# Altium schematic symbol library mPCIe_Breakout01.SCHLIB: 46 symbols
Pins are listed as number, name and electrical type; pins without a type are passive.

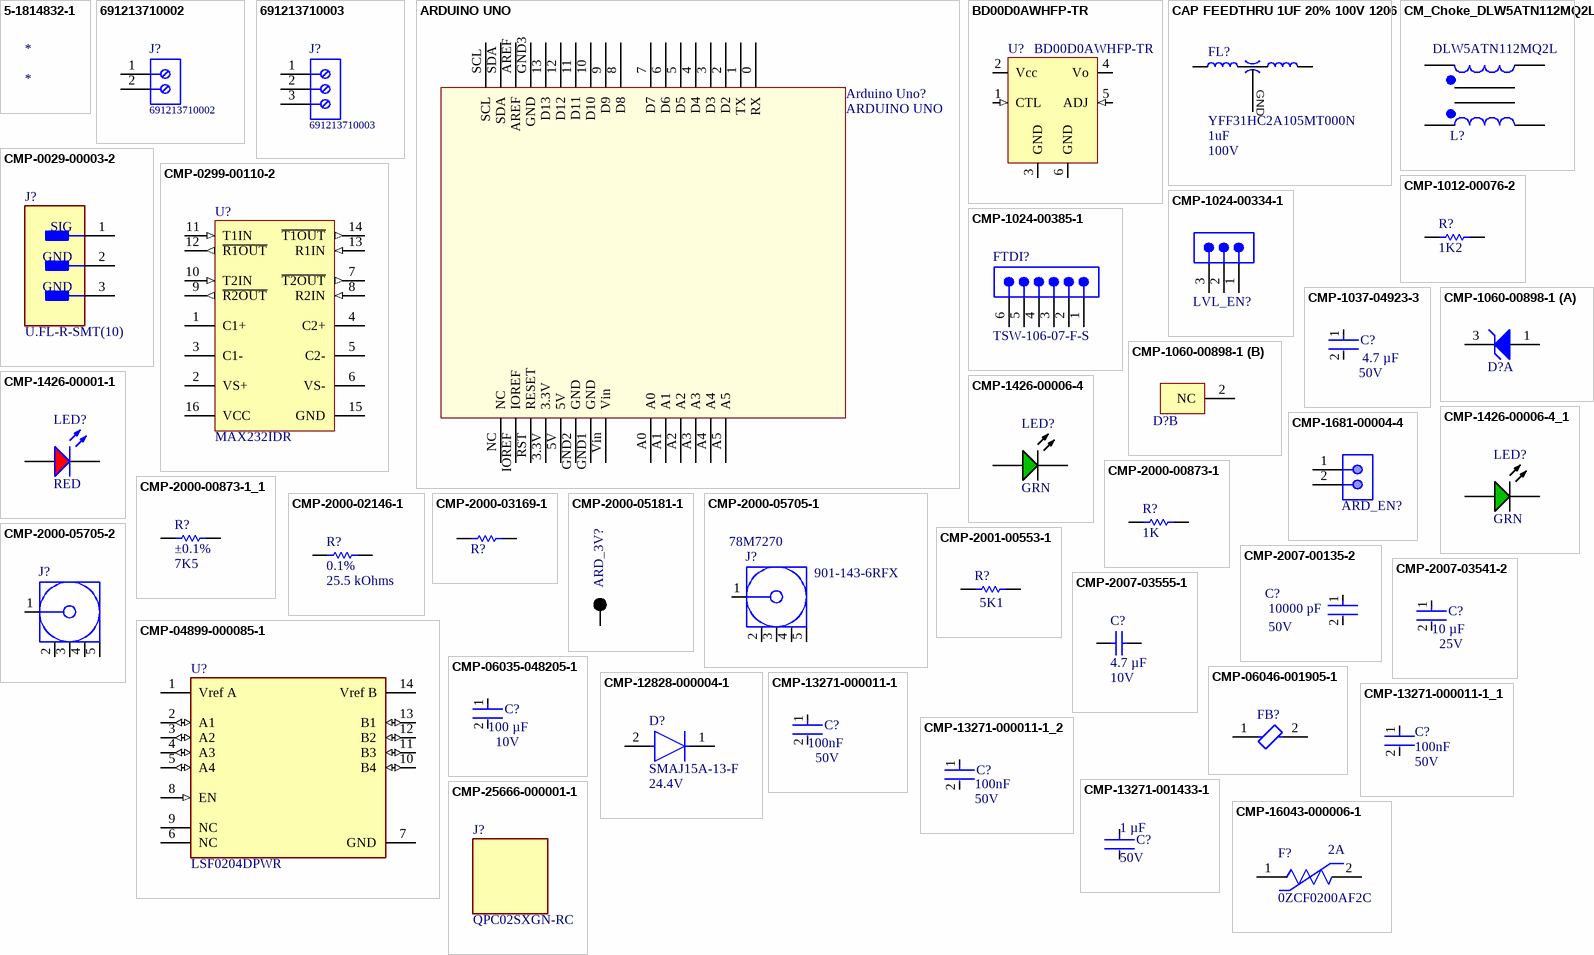
[diagram p0: symbols 5-1814832-1 to CMP-25666-000001-1]

## 5-1814832-1
designator *
SMA 50 Ohm Female Straight PCB Socket Threaded RF Jack Connector

## 691213710002
designator J?
HEADER, 2 Position Wire to Board Terminal Block Horizontal with Board 0.197" (5.00mm) Through Hole; MANUF1: Wurth Electronics Inc.; 1K COST: .68; TEMP: -40°C ~ 105°C; Value: Green; Voltage: 300V; MANUF1 P/N: 691213710002; Size: 5mm; SPECIAL_INSTRUCTIONS: 691213710002; Supplier: Digikey; Supplier P/N: 732-2038-ND; Tolerance: n/a; Type: Wire to Board; Manufacturer: Wurth Electronics Inc.; Manufacturer Part Number: 691213710002
footprint 691213710002 (5,00mm - modular - green - Horizontal entry with rising cage clamp -  10,0mm height - 02p)
pins: 1, 2

## 691213710003
designator J?
HEADER, 3 Position Wire to Board Terminal Block Horizontal with Board 0.197" (5.00mm) Through Hole; MANUF1: Wurth Electronics Inc.; 1K COST: .93; TEMP: -40°C ~ 105°C; Tolerance: NA; Value: Green; Voltage: 300V; MANUF1 P/N: 691213710003; Size: 5mm; SPECIAL_INSTRUCTIONS: 691213710003; Supplier: Digikey; Supplier P/N: 732-2039-ND; Type: Wire to Board; Manufacturer: Wurth Electronics Inc.; Manufacturer Part Number: 691213710003
footprint 691213710003 (5,00mm - modular - green - Horizontal entry with rising cage clamp -  10,0mm height - 03p)
pins: 1, 2, 3

## ARDUINO UNO
designator Arduino Uno?  (no BOM)
UNO; MANUF1: TBD; Value: TBD; MANUF1 P/N: TBD; Manufacturer: TBD; Manufacturer Part Number: TBD; Size: TH; SPECIAL_INSTRUCTIONS: TBD; Supplier: Digi-Key; Supplier P/N: TBD; TEMP: TBD; Tolerance: TBD; Type: TBD; Voltage: TBD
footprint Arduino Uno
pins: 0 RX, 1 TX, 2 D2, 3 D3, 3.3V, 4 D4, 5 D5, 5V, 6 D6, 7 D7, 8 D8, 9 D9, 10 D10, 11 D11, 12 D12, 13 D13, A0, A1, A2, A3, A4, A5, AREF, GND1 GND, GND2 GND, GND3 GND, IOREF, NC, RST RESET, SCL, SDA, Vin

## BD00D0AWHFP-TR
designator U?
2A Standard / Variable Output LDO Regulator; MANUF1: Rohm; TEMP: -40°C ~ 105°C; Tolerance: NA; Value: 0.55V @ 1A; Voltage: 25V; MANUF1 P/N: BD00D0AWHFP-TR; Manufacturer: Rohm; Manufacturer Part Number: BD00D0AWHFP-TR; Size: HRP-5; SPECIAL_INSTRUCTIONS: BD00D0AWHFP-TR; Supplier: Digi-Key; Supplier P/N: BD00D0AWHFPTR-ND; Type: IC
footprint TO172P1054X2005-6N
pins: 1 CTL (in), 2 Vcc (power), 3 GND (power), 4 Vo (power), 5 ADJ (in), 6 GND (power) "FIN"

## CAP FEEDTHRU 1UF 20% 100V 1206
designator FL?, comment value 1uF  Voltage: 100V  (hidden comment: YFF31HC2A105MT000N)
Feed Through Capacitor 100V 5mOhm 1206 (3216 Metric), 4 PC Pad; MANUF1: TDK Corporation; Tolerance: 10%; TEMP: -55°C ~ 125°C; 1K COST: 0.19; Size: 1206; Supplier: Digikey; Supplier P/N: 445-16151-2-ND; Type: N/A; MANUF1 P/N: YFF31HC2A105MT000N; Manufacturer: TDK Corporation; Manufacturer Part Number: YFF31HC2A105MT000N; SPECIAL_INSTRUCTIONS: YFF31HC2A105MT000N
signal-integrity model Model Name (Model Description)
footprint FIL_YFF31HC2A104MT000N_YFF31HC2A104MT000N
pins: 1 IN/OUT, 2_4 GND (power), 3 OUT/IN
1 alternate drawing of the same symbol

## CM_Choke_DLW5ATN112MQ2L
designator L?, comment DLW5ATN112MQ2L
CMC 2A 2LN 1.1 KOHM SMD; MANUF1: Murata Electronics; Tolerance: NA; Type: CMCCC; TEMP: -40°C ~ 105°C; 1K COST: 0.68; Size: SMT; SPECIAL_INSTRUCTIONS: DLW5ATN112MQ2L; Supplier: Digikey; Supplier P/N: 490-12641-2-ND; MANUF1 P/N: DLW5ATN112MQ2L; Value: 2A; Voltage: N/A; Manufacturer: Murata Electronics; Manufacturer Part Number: DLW5ATN112MQ2L
signal-integrity model Model Name (Model Description)
footprint FIL_DLW5ATN112MQ2L
pins: 1, 2, 3, 4
1 alternate drawing of the same symbol

## CMP-0029-00003-2
designator J?, comment U.FL-R-SMT(10)
CONN U.FL RCPT STR 50 OHM SMD; Manufacturer: Hirose; TEMP: -40°C ~ 90°C; Tolerance: NA; Value: NA; Manufacturer Part Number: U.FL-R-SMT(10); MANUF1: Hirose; MANUF1 P/N: U.FL-R-SMT(10); Size: SMT; SPECIAL_INSTRUCTIONS: U.FL-R-SMT(10); Supplier: Digikey; Supplier P/N: H9161TR-ND; Type: CONN; Voltage: NA
footprint FP-U_FL-R-SMT_10-MFG
pins: 1 SIG, 2 GND (power), 3 GND (power)

## CMP-0299-00110-2
designator U?, comment MAX232IDR
Dual EIA-232 Driver / Receiver, -40 to 85 degC, 16-Pin SOIC (D), Green (RoHS & no Sb/Br); Manufacturer: Texas Instruments; TEMP: -40°C ~ 85°C; Tolerance: NA; Value: NA; Voltage: 4.5V ~ 5.5V; Manufacturer Part Number: MAX232IDR; MANUF1: Texas Instruments; MANUF1 P/N: MAX232IDR; Size: 16SOIC; SPECIAL_INSTRUCTIONS: MAX232IDR; Supplier: Digi-Key; Supplier P/N: 296-26141-2-ND; Type: IC
footprint D0016A_M (SOIC, 16-Leads, Body 10x4mm, Pitch 1.27mm, IPC Low Density)
pins: 1 C1+, 2 VS+ (power), 3 C1-, 4 C2+, 5 C2-, 6 VS- (power), 7 ~{T2OUT} (out), 8 R2IN (in), 9 ~{R2OUT} (out), 10 T2IN (in), 11 T1IN (in), 12 ~{R1OUT} (out), 13 R1IN (in), 14 ~{T1OUT} (out), 15 GND (power), 16 VCC (power)

## CMP-1012-00076-2
designator R?, comment value 1K2  (hidden comment: ERJ-3GEYJ122V)
RES SMD 1.2K OHM 5% 1/10W 0603; Manufacturer: Bourns; Manufacturer Part Number: CR0603-JW-122ELF; TEMP: -55°C ~ 155°C; Voltage: NA; MANUF1: Bourns; MANUF1 P/N: CR0603-JW-122ELF; Size: 0603; SPECIAL_INSTRUCTIONS: CR0603-JW-122ELF; Supplier: Digikey; Supplier P/N: 118-CR0603-JW-122ELFTR-ND; Tolerance: ±5%; Type: RES
footprint RESC1608X55X30LL15T15 (Chip Resistor, 2-Leads, Body 1.60x0.80mm, IPC High Density)
pins: 1, 2
1 alternate drawing of the same symbol

## CMP-1024-00334-1
designator LVL_EN?, comment TSW-103-07-L-S  (value not drawn)
0.025" SQ Post Header, Through-hole, Vertical, -55 to 125 degC, 2.54 mm Pitch, 3-Pin, Male, RoHS; Manufacturer: Samtec; TEMP: -55°C ~ 125°C; Tolerance: NA; Value: NA; Manufacturer Part Number: TSW-103-07-L-S; MANUF1: Samtec; MANUF1 P/N: TSW-103-07-L-S; Size: TH; SPECIAL_INSTRUCTIONS: TSW-103-07-L-S; Supplier: Digi-Key; Supplier P/N: SAM1031-03-ND; Type: CONN; Voltage: NA
footprint SMTC-TSW-103-07-X-S (.025 SQ Post Terminal Strip Assembly, 1x3 Pins, Vertical, 2.54mm Pitch, Male)
pins: 1, 2, 3

## CMP-1024-00385-1
designator FTDI?, comment TSW-106-07-F-S
0.025" SQ Post Header, Through-hole, Vertical, -55 to 125 degC, 2.54 mm Pitch, 6-Pin, Male, RoHS; Manufacturer: Samtec; TEMP: -55°C ~ 125°C; Tolerance: NA; Value: NA; Manufacturer Part Number: TSW-106-07-F-S; MANUF1: Samtec; MANUF1 P/N: TSW-106-07-F-S; Size: TH; SPECIAL_INSTRUCTIONS: TSW-106-07-F-S; Supplier: Digi-Key; Supplier P/N: SAM10852-ND; Type: CONN; Voltage: NA
footprint SMTC-TSW-106-07-X-S (.025 SQ Post Terminal Strip Assembly, 1x6 Pins, Vertical, 2.54mm Pitch, Male)
pins: 1, 2, 3, 4, 5, 6

## CMP-1037-04923-3
designator C?, comment value 4.7 µF  Voltage: 50V  (hidden comment: GRM31CR71H475KA12L)
Chip Multilayer Ceramic Capacitors for General Purpose, 1206, 4.7uF, X7R, 15%, 10%, 50V; Manufacturer: TDK; Manufacturer Part Number: C3216X5R1H475K; TEMP: 445-5994-2-ND; Type: CAP; Tolerance: 10%; MANUF1: TDK; MANUF1 P/N: C3216X5R1H475K; Size: 1206; SPECIAL_INSTRUCTIONS: C3216X5R1H475K; Supplier: Digi-Key; Supplier P/N: C3216X5R1H475K
footprint FP-GRM31C-0_2-e0_3_0_8-IPC_C
pins: 1, 2

## CMP-1060-00898-1
designator D?, comment BZX84B5V1LT1G  (value not drawn)
Zener Voltage Regulator, 225 mW, 3-Pin SOT-23, Pb-Free, Tape and Reel; Manufacturer: ON Semiconductor; TEMP: -65°C ~ 150°C; Tolerance: NA; Value: 225 mW; Voltage: 5.1V; Manufacturer Part Number: BZX84B5V1LT1G; MANUF1: ON Semiconductor; MANUF1 P/N: BZX84B5V1LT1G; Size: SOT-23; SPECIAL_INSTRUCTIONS: BZX84B5V1LT1G; Supplier: Digi-Key; Supplier P/N: BZX84B5V1LT1GOSTR-ND; Type: ZENER
footprint ONSC-SOT-23-3-318-08_V (SOT23, 3-Leads, Body 2.92x1.3mm, Pitch 0.95mm)
part A pins: 1 A, 3 K
part B pins: 2 NC

## CMP-1426-00001-1
designator LED?, comment value RED  (hidden comment: 150060RS75000)
SMD mono-color Chip LED, WL-SMCW, Red; Manufacturer: Wurth Electronics; TEMP: 40 up to +85 °C; Tolerance: NA; Voltage: 25V; Manufacturer Part Number: 150060RS75000; MANUF1: Wurth Electronics; MANUF1 P/N: 150060RS75000; Size: 0603; SPECIAL_INSTRUCTIONS: 150060RS75000; Supplier: Digikey; Supplier P/N: 732-4978-2-ND; Type: LED
footprint 0603_A (Chip LED, 2-Leads, Body 1.6x0.8mm, IPC Medium Density)
pins: 1 K, 2 A

## CMP-1426-00006-4
designator LED?, comment value GRN  (hidden comment: 150060VS75000)
WL-SMCW SMD Chip LED Top View Monocolor Waterclear, 30 mA, 2 V, -40 to 85 degC, 2-Pin SMD, RoHS, Tape and Reel GRN; Manufacturer: Wurth Electronics; TEMP: 40 up to +85 °C; Tolerance: NA; Voltage: 25V; Manufacturer Part Number: 150060VS75000; MANUF1: Wurth Electronics; MANUF1 P/N: 150060VS75000; Size: 0603; SPECIAL_INSTRUCTIONS: 150060VS75000; Supplier: Digi-Key; Supplier P/N: 732-4980-2-ND; Type: LED
footprint WE-150060VS75000_V (SMD, 2-Leads, Body 1.6x0.8mm)
pins: 1 K, 2 A

## CMP-1426-00006-4_1
designator LED?, comment value GRN  (hidden comment: 150060VS75000)
WL-SMCW SMD Chip LED Top View Monocolor Waterclear, 30 mA, 2 V, -40 to 85 degC, 2-Pin SMD, RoHS, Tape and Reel GRN; Manufacturer: Wurth Electronics; TEMP: 40 up to +85 °C; Tolerance: NA; Voltage: 25V; Manufacturer Part Number: 150060VS75000; MANUF1: Wurth Electronics; MANUF1 P/N: 150060VS75000; Size: 0603; SPECIAL_INSTRUCTIONS: 150060VS75000; Supplier: Digi-Key; Supplier P/N: 732-4978-2-ND; Type: LED
footprint WE-150060VS75000_V (SMD, 2-Leads, Body 1.6x0.8mm)
pins: 1 K, 2 A

## CMP-1681-00004-4
designator ARD_EN?, comment TSW-102-07-S-S  (value not drawn)
Male Header, Pitch 2.54 mm, 1 x 2 Position, Height 8.38 mm, Tail Length 2.54 mm, -55 to 125 degC, RoHS, Bulk; Manufacturer: Samtec; TEMP: -55°C ~ 125°C; Tolerance: NA; Value: NA; Manufacturer Part Number: TSW-102-07-S-S; MANUF1: Samtec; MANUF1 P/N: TSW-102-07-S-S; Size: TH; SPECIAL_INSTRUCTIONS: TSW-102-07-S-S; Supplier: Digi-Key; Supplier P/N: SAM1033-02-ND; Type: CONN; Voltage: NA
footprint SMTC-TSW-102-07-S-S (Header, 2-Leads, Body 5.08x2.54mm, Pitch 2.54mm)
pins: 1, 2

## CMP-2000-00873-1
designator R?, comment value 1K  (hidden comment: ERA3AEB102V)
RES SMD 1K OHM 0.1% 1/10W 0603; Manufacturer: Panasonic; Manufacturer Part Number: ERA-3AEB102V; TEMP: -55°C ~ 155°C; Voltage: NA; MANUF1: Panasonic; MANUF1 P/N: ERA-3AEB102V; Size: 0603; SPECIAL_INSTRUCTIONS: ERA-3AEB102V; Supplier: Digi-Key; Supplier P/N: P1.0KDBTR-ND; Tolerance: ±0.1%; Type: RES
footprint RESC1608X55X30LL20T20 (Chip Resistor, 2-Leads, Body 1.60x0.80mm, IPC High Density)
pins: 1, 2
1 alternate drawing of the same symbol

## CMP-2000-00873-1_1
designator R?, comment value 7K5  Tolerance: ±0.1%  (hidden comment: ERA3AEB102V)
RES SMD 7.5K OHM 0.1% 1/10W 0603; Manufacturer: Panasonic; Manufacturer Part Number: ERA-3AEB752V; TEMP: -55°C ~ 155°C; Voltage: NA; MANUF1: Panasonic; MANUF1 P/N: ERA-3AEB752V; Size: 0603; SPECIAL_INSTRUCTIONS: ERA-3AEB752V; Supplier: Digi-Key; Supplier P/N: P7.5KDBTR-ND; Type: RES
footprint RESC1608X55X30LL20T20 (Chip Resistor, 2-Leads, Body 1.60x0.80mm, IPC High Density)
pins: 1, 2
1 alternate drawing of the same symbol

## CMP-2000-02146-1
designator R?, comment value 25.5 kOhms  Tolerance: 0.1%  (hidden comment: RG1608P-2552-B-T5)
RES SMD 25.5KOHM 0.1% 1/10W 0603; Manufacturer: Susumu; TEMP: -55°C ~ 125°C; Voltage: NA; Manufacturer Part Number: RG1608P-2552-B-T5; MANUF1: Susumu; MANUF1 P/N: RG1608P-2552-B-T5; Size: 0603; SPECIAL_INSTRUCTIONS: RG1608P-2552-B-T5; Supplier: Digi-Key; Supplier P/N: RG16P25.5KBTR-ND; Type: RES
footprint RESC1608X50X30LL20T20 (Chip Resistor, 2-Leads, Body 1.60x0.80mm, IPC High Density)
pins: 1, 2
1 alternate drawing of the same symbol

## CMP-2000-03169-1
designator R?, comment CRCW06032K20JNEA  (value not drawn)
RES SMD 2.2K OHM 5% 1/10W 0603; Manufacturer: Vishay; TEMP: -55°C ~ 155°C; Value: 2k2; Voltage: NA; Manufacturer Part Number: CRCW06032K20JNEA; MANUF1: Vishay; MANUF1 P/N: CRCW06032K20JNEA; Size: 0603; SPECIAL_INSTRUCTIONS: CRCW06032K20JNEA; Supplier: Digi-Key; Supplier P/N: 541-2.2KGTR-ND; Tolerance: ±5%; Type: RES
footprint RESC1609X50X30LL10T20 (Chip Resistor, 2-Leads, Body 1.55x0.85mm, IPC High Density)
pins: 1, 2
1 alternate drawing of the same symbol

## CMP-2000-05181-1
designator ARD_3V?, comment 5001  (value not drawn)
Test Point, Black, 1-Pin THD, RoHS, Bulk; Manufacturer: Keystone Electronics; TEMP: NA; Value: NA; Type: TEST POINT; Manufacturer Part Number: 5001; MANUF1: Keystone Electronics; MANUF1 P/N: 5001; Size: TH; SPECIAL_INSTRUCTIONS: 5001; Supplier: Digikey; Supplier P/N: 36-5001-ND; Tolerance: NA; Voltage: NA
footprint KSTN-5001 (Test Point, Through Hole, Dia 2.54mm)
pins: 1

## CMP-2000-05705-1
designator J?, comment Supplier Part Number 1: 78M7270  (hidden comment: 901-143-6RFX)
SMA 50 Ohm Female Straight PCB Socket Threaded RF Jack Connector; Manufacturer: Amphenol RF; TEMP: NA; Value: 50 Ohms; Plating: Nickel; Body Plating: Gold; Dielectric Material: PTFE; Polarity: Normal; Impedance: 50R; Frequency: 3GHz; Connector Type: SMA,Jack; Operating Frequency: 0 to 3 GHz; Wire/Cable Type: Coaxial; Insulation Resistance: 5GR; Connector System: Cable-to-Board; Number of Positions: 1; Sealable: No (Without); Tail Length: 4mm; Manufacturer Part Number: 901-143-6RFX; MANUF1: Amphenol RF; MANUF1 P/N: 901-143-6RFX; Size: TH; Supplier: Digikey; Supplier P/N: ARFX1232-ND; Tolerance: NA; Type: CONN; Voltage: NA; Supplier 1: Newark; RoHS: Yes; Category: RF / Coaxial Connectors; Pricing 1: 1=2.96000, 10=2.78000, 25=2.63000, 50=2.48000, 100=2.32000, 500=1.89000, 1000=1.73000, 2000=1.73000, 2500=1.55000 (USD); Mount: Through Hole,PCB; Case/Package: SMA; Contact Plating: Gold; Contact Material: Bronze; Insulation Material: Polytetrafluoroethylene; Min Operating Temperature: -67°C; Max Operating Temperature: 185°C; Package Quantity: 1; Packaging: Box; Series: SMA; Termination: Through Hole; Fastening Type: Threaded; Gender: Female; Max Frequency: 3GHz; Orientation: Straight; Length: 0.532inch; Depth: 6.4mm; Radiation Hardening: No; Lead Free: Lead Free; REACH SVHC: No SVHC; ELV: Compliant; ComponentLink1URL: https://datasheet.ciiva.com/642/eng-cd-1814832-b1-642785.pdf?src-supplier=Avnet; ComponentLink1Description: https://datasheet.ciiva.com/642/eng-cd-1814832-b1-642785.pdf?src-supplier=Avnet; ComponentLink2URL: https://datasheet.ciiva.com/642/eng-cd-1814832-b1-642785.pdf?src-supplier=Digi-Key; ComponentLink2Description: https://datasheet.ciiva.com/642/eng-cd-1814832-b1-642785.pdf?src-supplier=Digi-Key; ComponentLink3URL: https://datasheet.ciiva.com/16318/5-1814832-1-16318587.pdf?src-supplier=Future+Electronics; ComponentLink3Description: https://datasheet.ciiva.com/16318/5-1814832-1-16318587.pdf?src-supplier=Future+Electronics; ComponentLink4URL: https://datasheet.ciiva.com/11762/0900766b80a70d0f-11762254.pdf?src-supplier=RSComponents; ComponentLink4Description: https://datasheet.ciiva.com/11762/0900766b80a70d0f-11762254.pdf?src-supplier=RSComponents; ComponentLink5URL: https://datasheet.ciiva.com/23783/1663582-23783560.pdf?src-supplier=Newark; ComponentLink5Description: https://datasheet.ciiva.com/23783/1663582-23783560.pdf?src-supplier=Newark; ComponentLink6URL: https://datasheet.ciiva.com/26824/getdatasheetpartid-396696-26824822.pdf?src-supplier=Verical; ComponentLink6Description: https://datasheet.ciiva.com/26824/getdatasheetpartid-396696-26824822.pdf?src-supplier=Verical; ComponentLink7URL: https://datasheet.ciiva.com/25908/eng-cd-1814832-a-25908583.pdf?src-supplier=Avnet+Europe; ComponentLink7Description: https://datasheet.ciiva.com/25908/eng-cd-1814832-a-25908583.pdf?src-supplier=Avnet+Europe; ComponentLink8URL: https://datasheet.ciiva.com/16469/eng-cd-1814832-a-16469256.pdf?src-supplier=Avnet+Asia; ComponentLink8Description: https://datasheet.ciiva.com/16469/eng-cd-1814832-a-16469256.pdf?src-supplier=Avnet+Asia; ComponentLink9URL: https://datasheet.ciiva.com/30201/eng-cd-1814832-a-30201302.pdf?src-supplier=Onlinecomponents.com; ComponentLink9Description: https://datasheet.ciiva.com/30201/eng-cd-1814832-a-30201302.pdf?src-supplier=Onlinecomponents.com; SPECIAL_INSTRUCTIONS: 901-143-6RFX
footprint AMPH-901-143-6RFX_V (THD, 5-Leads, Body 7x7mm, Pitch 2.54mm)
pins: 1, 2, 3, 4, 5

## CMP-2000-05705-2
designator J?
Rf Coax Conn, Sma Jack, 50 Ohm, Pcb Rohs Compliant: Yes; Manufacturer: TE Connectivity; Manufacturer Part Number: 5-1814832-2; TEMP: -65°C ~ 165°C; Voltage: 335 V; Supplier: Digikey; Supplier P/N: 17-5-1814832-2CT-ND; Type: Jack, Female Socket; RoHS: Yes; Supplier 1: Digi-Key; Category: RF / Coaxial Connectors; Stock 1: 4896; Pricing 1: 1=3.00000, 10=2.88300, 25=2.64280, 50=2.52240, 100=2.40240, 250=2.10208, 500=2.04202 (USD); Supplier Part Number 1: 17-5-1814832-2CT-ND
footprint TECO-5-1814832-1_V (THD, 5-Leads, Body 6.4x6.4mm, Pitch 5.08mm)
pins: 1, 2, 3, 4, 5

## CMP-2001-00553-1
designator R?, comment value 5K1  (hidden comment: ERJ6ENF5101V)
RES SMD 5.1K OHM 1% 1/8W 0805; Manufacturer: Panasonic; Manufacturer Part Number: ERJ-6ENF5101V; TEMP: -55°C ~ 155°C; Voltage: NA; MANUF1: Panasonic; MANUF1 P/N: ERJ-6ENF5101V; Size: 0603; SPECIAL_INSTRUCTIONS: ERJ-6ENF5101V; Supplier: Digi-Key; Supplier P/N: P5.10KCTR-ND; Tolerance: ±1%; Type: RES
footprint RESC2013X70X40LL20T20 (Chip Resistor, 2-Leads, Body 2.00x1.25mm, IPC High Density)
pins: 1, 2
1 alternate drawing of the same symbol

## CMP-2007-00135-2
designator C?, comment value 10000 pF  Voltage: 50V  (hidden comment: GRM2195C1H103JA01D)
Chip Multilayer Ceramic Capacitors for General Purpose, 0805, 10000pF, C0G, 30ppm/°C, 5%, 50V; Manufacturer: Murata; TEMP: -55°C ~ 125°C; Type: CAP; Tolerance: 5%; Manufacturer Part Number: GRM2195C1H103JA01D; MANUF1: Murata; MANUF1 P/N: GRM2195C1H103JA01D; Size: 0805; SPECIAL_INSTRUCTIONS: GRM2195C1H103JA01D; Supplier: Digi-Key; Supplier P/N: 490-1642-2-ND
footprint FP-GRM219-0_1-IPC_B
pins: 1, 2

## CMP-2007-03541-2
designator C?, comment value 10 µF  Voltage: 25V  (hidden comment: GRM21BR61E106KA73L)
Chip Multilayer Ceramic Capacitors for General Purpose, 0805, 10uF, X5R, 15%, 10%, 25V; Manufacturer: Murata; TEMP: -55°C ~ 85°C; Type: CAP; Tolerance: 10%; Manufacturer Part Number: GRM21BR61E106KA73L; MANUF1: Murata; MANUF1 P/N: GRM21BR61E106KA73L; Size: 0805; SPECIAL_INSTRUCTIONS: GRM21BR61E106KA73L; Supplier: Digi-Key; Supplier P/N: 490-5523-2-ND
footprint FP-GRM21B-0_15-IPC_C
pins: 1, 2

## CMP-2007-03555-1
designator C?, comment value 4.7 µF  Voltage: 10V  (hidden comment: GRM21BR71A475KA73L)
4.7 µF ±10% 10V Ceramic Capacitor X7R 0805 (2012 Metric); Manufacturer: Murata; TEMP: -55°C ~ 125°C; Type: CAP; Manufacturer Part Number: GRM21BR71A475KA73L; MANUF1: Murata; MANUF1 P/N: GRM21BR71A475KA73L; Size: 0805; SPECIAL_INSTRUCTIONS: GRM21BR71A475KA73L; Supplier: Digi-Key; Supplier P/N: 490-6480-2-ND; Tolerance: 10%
footprint CAPC2013X135X45LL10T25 (Chip Capacitor, 2-Leads, Body 2.00x1.25mm, IPC High Density)
pins: 1, 2
1 alternate drawing of the same symbol

## CMP-04899-000085-1
designator U?, comment LSF0204DPWR
IC TRNSLTR BIDIRECTIONAL 14TSSOP; Manufacturer: Texas Instruments; TEMP: -40°C ~ 125°C; Tolerance: NA; Value: NA; Voltage: 0.8/1.8 V ~ 4.5/5.5 V; Manufacturer Part Number: LSF0204DPWR; MANUF1: Texas Instruments; MANUF1 P/N: LSF0204DPWR; SPECIAL_INSTRUCTIONS: LSF0204DPWR; Supplier: Digi-Key; Supplier P/N: 296-40400-2-ND; Type: IC
footprint FP-PW0014A-IPC_B
pins: 1 Vref A (power), 2 A1 (io), 3 A2 (io), 4 A3 (io), 5 A4 (io), 6 NC, 7 GND (power), 8 EN (in), 9 NC, 10 B4 (io), 11 B3 (io), 12 B2 (io), 13 B1 (io), 14 Vref B (power)

## CMP-06035-048205-1
designator C?, comment value 100 µF  Voltage: 10V  (hidden comment: GRM32ER61A107ME20L)
Chip Multilayer Ceramic Capacitors for General Purpose, 1210, 100uF, X5R, 15%, 20%, 10V; Manufacturer: Murata; TEMP: -55°C ~ 85°C; Type: CAP; Tolerance: 20%; Manufacturer Part Number: GRM32ER61A107ME20L; MANUF1: Murata; MANUF1 P/N: GRM32ER61A107ME20L; Size: 1210; SPECIAL_INSTRUCTIONS: GRM32ER61A107ME20L; Supplier: Digi-Key; Supplier P/N: 490-9969-2-ND
footprint FP-GRM32E-0_3-0_2-IPC_B
pins: 1, 2

## CMP-06046-001905-1
designator FB?, comment BLM21SP601SH1D  (value not drawn)
Chip Ferrite Bead, 0805, 600Ω @ 100MHz, 0.06Ω, 25%, 2.3A; Manufacturer: Murata; TEMP: -55°C ~ 125°C; Tolerance: NA; Value: 600 Ohms @ 100 MHz; Manufacturer Part Number: BLM21SP601SH1D; MANUF1: Murata; MANUF1 P/N: BLM21SP601SH1D; Size: 0805; SPECIAL_INSTRUCTIONS: BLM21SP601SH1D; Supplier: Digi-Key; Supplier P/N: 490-18588-2-ND; Type: FERRITE; Voltage: NA
footprint FP-BLM21-0_2-t0_85-e0_5-d-IPC_A
pins: 1, 2

## CMP-12828-000004-1
designator D?, comment Voltage: 24.4V  (hidden comment: SMAJ15A-13-F)
TVS DIODE 15V 24.4V SMA; Manufacturer: Diodes; TEMP: -50°C ~ 150°C; Tolerance: NA; Value: NA; Manufacturer Part Number: SMAJ15A-13-F; MANUF1: Diodes; MANUF1 P/N: SMAJ15A-13-F; Size: SMA; SPECIAL_INSTRUCTIONS: SMAJ15A-13-F; Supplier: Digikey; Supplier P/N: SMAJ15A-FDITR-ND; Type: DIODE
footprint FP-SMA-MFG
pins: 1 C, 2 A

## CMP-13271-000011-1
designator C?, comment value 100nF  Voltage: 50V  (hidden comment: CGA3E2X7R1H104K080AA)
Cap Ceramic 100nF 50V X7R 10% Pad SMD 0603 +125°C Automotive T/R; Manufacturer: TDK; TEMP: -55°C ~ 125°C; Manufacturer Part Number: CGA3E2X7R1H104K080AA; Tolerance: 10%; MANUF1: TDK; MANUF1 P/N: CGA3E2X7R1H104K080AA; Size: 0603; SPECIAL_INSTRUCTIONS: CGA3E2X7R1H104K080AA; Supplier: Digi-Key; Supplier P/N: 1276-1033-2-ND; Type: CAP
footprint FP-CL10-0_1-MFG
pins: 1, 2

## CMP-13271-000011-1_1
designator C?, comment value 100nF  Voltage: 50V  (hidden comment: CL10B104JB8NNNC)
CAP CER 0.1UF 50V X7R 0603; Manufacturer: Samsung; Tolerance: 5%; TEMP: -55°C ~ 125°C; Manufacturer Part Number: CL10B104JB8NNNC; MANUF1: Samsung; MANUF1 P/N: CL10B104JB8NNNC; Size: 0603; SPECIAL_INSTRUCTIONS: CL10B104JB8NNNC; Supplier: Digi-Key; Supplier P/N: 1276-1033-2-ND; Type: CAP
footprint FP-CL10-0_1-MFG
pins: 1, 2

## CMP-13271-000011-1_2
designator C?, comment value 100nF  Voltage: 50V  (hidden comment: CL10B104JB8NNNC)
CAP CER 0.1UF 50V X7R 0603; Manufacturer: Samsung; Tolerance: 5%; SPECIAL_INSTRUCTIONS: BD00D0AWHFP-TR; TEMP: -55°C ~ 125°C; Manufacturer Part Number: CL10B104JB8NNNC; MANUF1: Samsung; MANUF1 P/N: CL10B104JB8NNNC; Size: 0603; Supplier: Digi-Key; Supplier P/N: 1276-1033-2-ND; Type: CAP
footprint FP-CL10-0_1-MFG
pins: 1, 2

## CMP-13271-001433-1
designator C?, comment value 1 µF  Voltage: 50V  (hidden comment: CL21B105KBFNNNG)
CL21 Series 0805 1uF 50V ±10% Tolerance X7R Multilayer Ceramic Chip Capacitor; Manufacturer: Samsung; TEMP: -55°C ~ 125°C; Type: CAP; Tolerance: 10%; Manufacturer Part Number: CL21B105KBFNNNG; MANUF1: Samsung; MANUF1 P/N: CL21B105KBFNNNG; Size: 0805; SPECIAL_INSTRUCTIONS: CL21B105KBFNNNG; Supplier: Digi-Key; Supplier P/N: 1276-6470-2-ND
footprint FP-CL21-IPC_C
pins: 1, 2

## CMP-16043-000006-1
designator F?, comment 0ZCF0200AF2C  value 2A
PTC RESET FUSE 24V 2A 2920; Manufacturer: Bel; TEMP: -40°C ~ 85°C; Tolerance: NA; Manufacturer Part Number: 0ZCF0200AF2C; MANUF1: Bel; MANUF1 P/N: 0ZCF0200AF2C; Size: 2920; SPECIAL_INSTRUCTIONS: 0ZCF0200AF2C; Supplier: Digikey; Supplier P/N: 507-1749-2-ND; Type: FUSE; Voltage: 24V
footprint FP-0ZCF0200AF2C-MFG
pins: 1, 2

## CMP-25666-000001-1
designator J?, comment QPC02SXGN-RC  (mechanical)
CONN JUMPER SHORTING .100" GOLD; Manufacturer: Sullins; TEMP: -40°C ~ 85°C; Tolerance: NA; Value: 3A; Manufacturer Part Number: QPC02SXGN-RC; MANUF1: Sullins; MANUF1 P/N: QPC02SXGN-RC; Size: 2.54MM; SPECIAL_INSTRUCTIONS: QPC02SXGN-RC; Supplier: Digi-Key; Supplier P/N: S9337-ND; Type: JUMPER; Voltage: NA
footprint FP-QPC02SXGN-RC-MFG (Footprint not found)

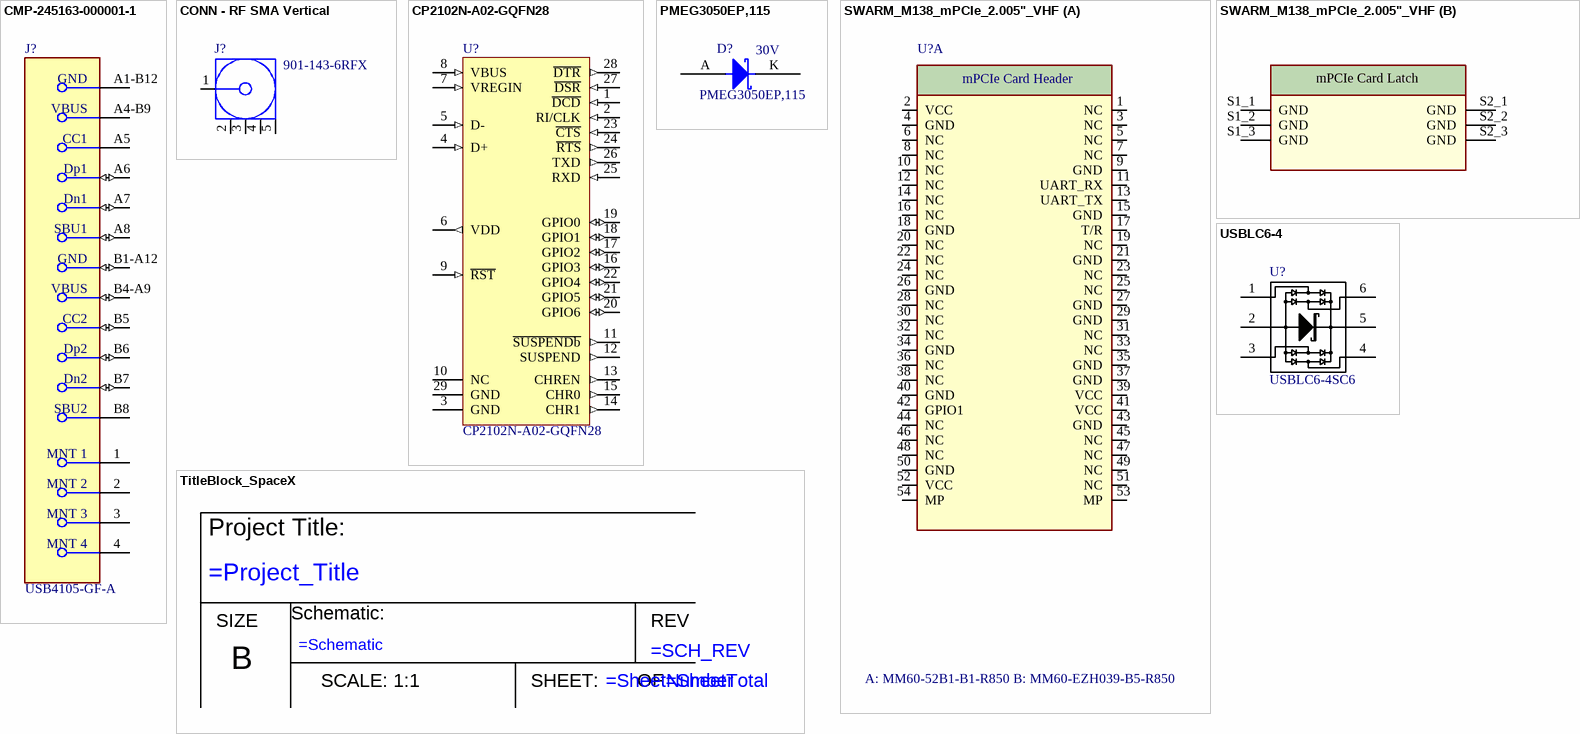
[diagram p1: symbols CMP-245163-000001-1 to USBLC6-4]

## CMP-245163-000001-1
designator J?, comment USB4105-GF-A
CONN RCPT USB2.0 TYPEC 5A; Manufacturer: Global Connector Technology; TEMP: -40°C ~ 85°C; Tolerance: NA; Value: NA; Manufacturer Part Number: USB4105-GF-A; MANUF1: Global Connector Technology; MANUF1 P/N: USB4105-GF-A; Size: SMT/TH; SPECIAL_INSTRUCTIONS: USB4105-GF-A; Supplier: Digikey; Supplier P/N: 2073-USB4105-GF-ATR-ND; Type: CONN; Voltage: NA
footprint FP-USB4105-GF-A-MFG
pins: 1 MNT 1 (power), 2 MNT 2 (power), 3 MNT 3 (power), 4 MNT 4 (power), A1-B12 GND (power), A4-B9 VBUS (power), A5 CC1 (power), A6 Dp1 (io), A7 Dn1 (io), A8 SBU1 (io), B1-A12 GND (io), B4-A9 VBUS (io), B5 CC2 (io), B6 Dp2 (io), B7 Dn2 (io), B8 SBU2 (power)

## CONN - RF SMA Vertical
designator J?, comment 901-143-6RFX
Coaxial connector, 50 Ohm, -65 to 165 degC, 5-Pin THD, RoHS, Bulk; Manufacturer: Amphenol RF; TEMP: NA; Value: 50 Ohms; Manufacturer Part Number: 901-143-6RFX; MANUF1: Amphenol RF; MANUF1 P/N: 901-143-6RFX; Size: TH; Supplier: Digikey; Supplier P/N: ARFX1232-ND; Tolerance: NA; Type: CONN; Voltage: NA; SPECIAL_INSTRUCTIONS: 901-143-6RFX
footprint AMPH-901-143-6RFX_V (THD, 5-Leads, Body 7x7mm, Pitch 2.54mm)
pins: 1, 2, 3, 4, 5

## CP2102N-A02-GQFN28
designator U?
USB Bridge, USB to UART USB 2.0 UART Interface 28-QFN (5x5); MANUF1: Silicon Labs; 1K COST: 1.22; TEMP: -40°C ~ 85°C; Size: QFN-28; SPECIAL_INSTRUCTIONS: CP2102N-A02-GQFN28; Supplier: Digi-Key; Supplier P/N: 336-5890-2-ND; Tolerance: N/A; Type: IC; Value: N/A; Voltage: N/A; MANUF1 P/N: CP2102N-A02-GQFN28; Manufacturer: Silicon Labs; Manufacturer Part Number: CP2102N-A02-GQFN28
footprint QFN50P500X500X100_HS-29N (QFN, 28-Leads, Body 5.00x5.00mm, Pitch 0.50mm, Thermal Pad 4.00x2.20mm, IPC Medium Density)
pins: 1 ~{DCD} (in), 2 RI/CLK (in) "Data Carrier Detect control input (active low)", 3 GND (power) "Ring Indicator control input (active low)", 4 D+ (in) "Ground", 5 D- (in) "USB D+", 6 VDD (out) "3.0-3.6 V Power Supply Voltage Input. 3.3 V Voltage Regulator Output", 7 VREGIN (in) "5 V Regulator Input. This pin is the input to the on-chip voltage regulator.", 8 VBUS (in) "VBUS Sense Input. This pin should be connected to the VBUS signal of a USB network. A 5 V signal on this pin indicates a USB network connection.", 9 ~{RST} (in) "Device Reset. Open-drain output of internal POR or VDD monitor. An external source can initiate a system reset by driving this pin low for at least 15 us.", 10 NC (power) "USB D-", 11 ~{SUSPENDb} (out), 12 SUSPEND (out), 13 CHREN (out), 14 CHR1 (out), 15 CHR0 (out), 16 GPIO3 (io) "Asynchronous data output (UART Transmit)", 17 GPIO2 (io) "Asynchronous data output (UART Transmit)", 18 GPIO1 (io) "Asynchronous data output (UART Transmit)", 19 GPIO0 (io) "Asynchronous data output (UART Transmit)", 20 GPIO6 (io) "Asynchronous data output (UART Transmit)", 21 GPIO5 (io) "Asynchronous data output (UART Transmit)", 22 GPIO4 (io) "Asynchronous data output (UART Transmit)", 23 ~{CTS} (in) "Clear To Send control input (active low)", 24 ~{RTS} (out) "Ready to Send control output (active low)", 25 RXD (in) "Asynchronous data input (UART Receive)", 26 TXD (out) "Asynchronous data output (UART Transmit)", 27 ~{DSR} (in) "Data Set Ready control input (active low)", 28 ~{DTR} (out) "Data Terminal Ready control output (active low)", 29 GND (power) "Ground"

## PMEG3050EP,115
designator D?  Voltage: 30V  (hidden comment: PMEG3050EP,115)
DIODE SCHOTTKY 30V 5A SOD128; MANUF1: NXP Semiconductors; Tolerance: NA; TEMP: -55°C ~ 175°C; 1K COST: .28; Size: SOD-128; Value: 5A; Supplier: Digikey; Supplier P/N: 1727-5317-1-ND; Type: DIODE; SPECIAL_INSTRUCTIONS: PMEG3050EP,115; MANUF1 P/N: PMEG3050EP,115; Manufacturer: NXP Semiconductors; Manufacturer Part Number: PMEG3050EP,115
footprint SODFL620X110-2N (SODFL, 2-Leads, Body 2.50x6.20mm, IPC Medium Density)
pins: A "Anode", K "Cathode"

## SWARM_M138_mPCIe_2.005"_VHF
designator U?, comment A: MM60-52B1-B1-R850 B: MM60-EZH039-B5-R850
SWARM M138 MODEM mPCIe 2.005" (50.925mm) x 1.18" (30mm)  Two part connector; MANUF1: JAE; Tolerance: NA; TEMP: -40°C ~ 85°C; Value: NA; Size: mPCIe; Supplier: Digikey; Supplier P/N: A: 670-2274-2-ND B: 670-2276-2-ND; Type: CONN; MANUF1 P/N: A: MM60-52B1-B1-R850 B: MM60-EZH039-B5-R850; Manufacturer: JAE; Manufacturer Part Number: A: MM60-52B1-B1-R850 B: MM60-EZH039-B5-R850; Voltage: NA; SPECIAL_INSTRUCTIONS: A: MM60-52B1-B1-R850 B: MM60-EZH039-B5-R850
signal-integrity model Model Name (Model Description)
footprint RF_VHF_JAE_MM60-52B1-B1-R850_MM60-EZH039-B5-R850_w_2005_mPCIe_card
part A pins: 1 NC (oc), 2 VCC (power), 3 NC, 4 GND (power), 5 NC, 6 NC, 7 NC (oc), 8 NC, 9 GND (power), 10 NC, 11 UART_RX, 12 NC, 13 UART_TX, 14 NC, 15 GND (power), 16 NC, 17 T/R, 18 GND (power), 19 NC, 20 NC, 21 GND (power), 22 NC, 23 NC, 24 NC, 25 NC, 26 GND (power), 27 GND (power), 28 NC, 29 GND (power), 30 NC, 31 NC, 32 NC, 33 NC, 34 GND (power), 35 GND (power), 36 NC, 37 GND (power), 38 NC, 39 VCC (power), 40 GND (power), 41 VCC (power), 42 GPIO1, 43 GND (power), 44 NC, 45 NC, 46 NC, 47 NC, 48 NC, 49 NC, 50 GND (power), 51 NC, 52 VCC (power), 53 MP (power), 54 MP (power)
part B pins: S1_1 GND (power), S1_2 GND (power), S1_3 GND (power), S2_1 GND (power), S2_2 GND (power), S2_3 GND (power)
1 alternate drawing of the same symbol
part A text: mPCIe Card Header
part B text: mPCIe Card Latch

## TitleBlock_SpaceX
designator ??  (value not drawn)  (graphical)
TITLE
text: Project Title:; Schematic:; SIZE; REV; B; SCALE: 1:1; SHEET:       OF

## USBLC6-4
designator U?, comment USBLC6-4SC6
USB ESD PROTECTION; MANUF1: STMicroelectronics; TEMP: -40°C ~ 125°C; 1K COST: 0.17903; MANUF1 P/N: USBLC6-4SC6; Size: SOT-23-6; SPECIAL_INSTRUCTIONS: USBLC6-4SC6; Supplier: Digi-Key; Supplier P/N: 497-4492-2-ND; Tolerance: N/A; Type: N/A; Value: N/A; Voltage: N/A; Manufacturer: STMicroelectronics; Manufacturer Part Number: USBLC6-4SC6
footprint SM/SOT23-6PIN
pins: 1 P1, 2 GND, 3 P2, 4 P3, 5 VBUS, 6 P4